# Altium schematic symbol library SamacSys.SchLib: 2 symbols
Pins are listed as number, name and electrical type; pins without a type are passive.

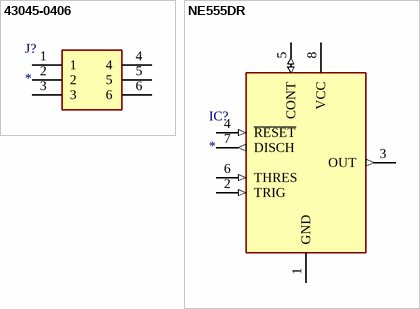
[diagram p0: symbols 43045-0406 to NE555DR]

## 43045-0406
designator J?
Connector; Manufacturer_Name: Molex; Manufacturer_Part_Number: 43045-0406; Datasheet Link: https://www.molex.com/pdm_docs/sd/430450206_sd.pdf; Height: 8.77mm; Mouser Part Number: 538-43045-0406; Mouser Price/Stock: https://www.mouser.co.uk/ProductDetail/Molex/43045-0406?qs=UeCeOHRHQeYGnc4y0X6gLg%3D%3D
footprint 43045-04YY_060708_1
pins: 1, 2, 3, 4, 5, 6

## NE555DR
designator IC?
Integrated Circuit; Manufacturer_Name: Texas Instruments; Manufacturer_Part_Number: NE555DR; Datasheet Link: http://www.ti.com/lit/ds/symlink/ne555.pdf; Height: 1.75mm; Mouser Part Number: 595-NE555DR; Mouser Price/Stock: https://www.mouser.com/Search/Refine.aspx?Keyword=595-NE555DR; RS Part Number: 1218414; RS Price/Stock: http://uk.rs-online.com/web/p/products/1218414
footprint SOIC127P600X175-8N
pins: 1 GND (power), 2 TRIG (in), 3 OUT (out), 4 ~{RESET} (in), 5 CONT (io), 6 THRES (in), 7 DISCH (out), 8 VCC (power)